# Altium schematic symbol library Mainboard.SCHLIB: 26 symbols
Pins are listed as number, name and electrical type; pins without a type are passive.

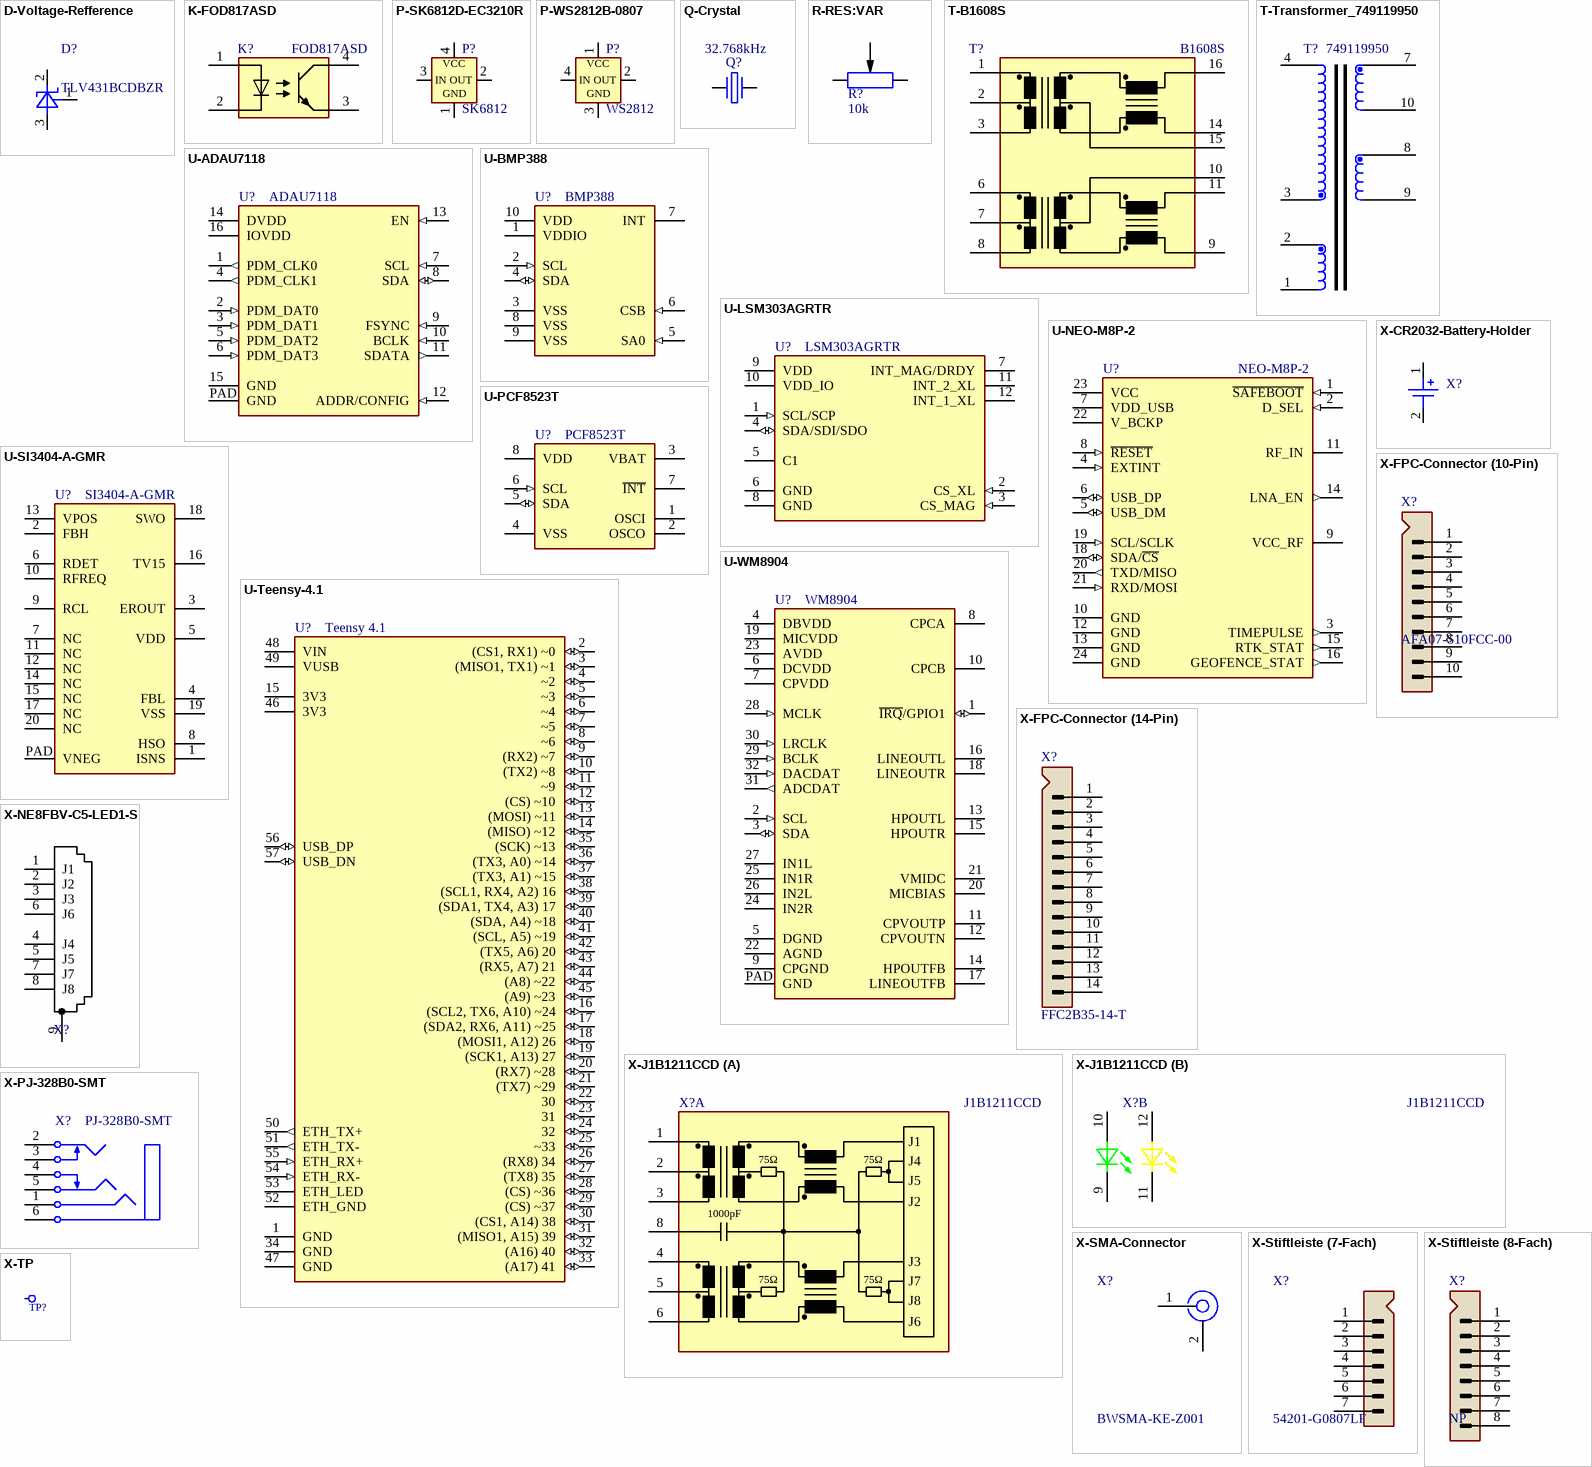
[diagram p0: symbols D-Voltage-Refference to X-TP]

## D-Voltage-Refference
designator D?, comment TLV431BCDBZR
Low-Voltage Adjustable Precision Shunt Regulator; Mouser: 595-TLV431BCDBZR; Digikey: 296-17569-1-ND; JLC-Parts: C2156583; ComponentLink1Description: Datasheet; ComponentLink1URL: https://www.ti.com/general/docs/suppproductinfo.tsp?distId=10&gotoUrl=https%3A%2F%2Fwww.ti.com%2Flit%2Fgpn%2Ftlv431a; Component Description: Low-Voltage Adjustable Precision Shunt Regulator; Component Value: TLV431BCDBZR; Unit Price: 0.59
pins: 1 REF, 2 C, 3 A

## K-FOD817ASD
designator K?, comment FOD817ASD
Phototransistor Optocoupler; Digikey: FOD817ASDDKR-ND; Farnell: 2322515; Mouser: 512-FOD817ASD; Component Description: Phototransistor Optocoupler; ComponentLink1Description: Datasheet; ComponentLink1URL: https://rocelec.widen.net/view/pdf/yhg4flovvn/ONSM-S-A0003163276-1.pdf?t.download=true&u=5oefqw; Component Value: FOD817ASD; JLC-Parts: C241830; Unit Price: 0.25
footprint SMD IC MDIP-6 (SOIC, 20-Leads, Body 12.8x7.5mm, Pitch 1.27mm, IPC Low Density)
pins: 1 LA, 2 LC, 3 TE, 4 TC

## P-SK6812D-EC3210R
designator P?, comment SK6812
Smart RGB-LED; aliExpress: 1005003125851992; Component Value: SK6812D-EC3210R; Digikey: 1528-4893-ND; Mouser: 485-4893; JLC-Parts: C2890041; ComponentLink1Description: Datasheet; ComponentLink1URL: https://datasheet.lcsc.com/lcsc/2108251530_OPSCO-Optoelectronics-SK6812D-EC3210R_C2890041.pdf; Component Description: Smart RGB-LED; Unit Price: 0.12
footprint SMD LED SK6812D-EC3210R (SMD_LED_RED)
pins: 1 GND (power), 2 OUT, 3 IN, 4 VCC (power)

## P-WS2812B-0807
designator P?, comment WS2812
Smart RGB-LED; aliExpress: 1005003999865721; Component Value: XL-0807RGBC-WS2812B; JLC-Parts: C3646929; ComponentLink1Description: Datasheet; ComponentLink1URL: https://datasheet.lcsc.com/lcsc/2108251530_OPSCO-Optoelectronics-SK6812D-EC3210R_C2890041.pdf; Component Description: Smart RGB-LED; Unit Price: 0.07
footprint SMD LED WS2812B-0807 (SMD_LED_RED)
pins: 1 VCC (power), 2 OUT, 3 GND (power), 4 IN

## Q-Crystal
designator Q?, comment 32.768kHz
Component Description: Crystal; Digikey: SER4103CT-ND; Mouser: 732-532.7680KA-A5; ComponentLink1Description: Datasheet; ComponentLink1URL: https://datasheet.lcsc.com/lcsc/1810171817_Seiko-Epson-Q13FC1350000400_C32346.pdf; Component Value: 32.768kHz; JLC-Parts: C32346; Unit Price: 0.18
pins: 1, 2
2 alternate drawings of the same symbol

## R-RES:VAR
designator R?, comment 10k
RES-VAR; Component Description: Potentiometer; Component Value: RK10J11R0A0H (Dual 10k); ComponentLink1Description: Datasheet; ComponentLink1URL: https://docs.rs-online.com/6334/A700000006802142.pdf; JLC-Parts: C470766; Mouser: 688-RK10J11R0A0H; Unit Price: 0.60
footprint THT Potentiometer (RK09D1130C2P) (Capacitor, Electrolytic, Radial; Body 5 x 5 mm (Dia.xH typ); Pin Spacing 2 mm (typ))
pins: CCW, CW, M
2 alternate drawings of the same symbol

## T-B1608S
designator T?, comment B1608S
LAN 10/100 Base-T Pulse Transformer with PoE; ComponentLink1Description: Datasheet; ComponentLink1URL: https://mm.digikey.com/Volume0/opasdata/d220001/medias/docus/696/SM13126PEL.pdf; Component Value: B1608S; Digikey: SM13126PELCT-ND; Farnell: 3225384; JLC-Parts: C507596; Mouser: 652-SM13126PEL; Unit Price: 0.24; Component Description: LAN 10/100 Base-T Pulse Transformer with PoE
footprint SMD Transformer 500x375
pins: 1 TD+, 2 TCT, 3 TD-, 4 NC hidden, 5 NC hidden, 6 RD+, 7 RCT, 8 RD-, 9 RX-, 10 RXCT, 11 RX+, 12 NC hidden, 13 NC hidden, 14 TX-, 15 TXCT, 16 TX+

## T-Transformer_749119950
designator T?, comment 749119950
PoE Power Transformer; Component Value: 749119950 (5V); Component Description: PoE Power Transformer; ComponentLink1Description: Datasheet; ComponentLink1URL: https://www.we-online.com/components/products/datasheet/749119950.pdf; Digikey: 732-2432-1-ND; Mouser: 710-749119950; Unit Price: 5.42
footprint THT Transformer EE20/10/6
pins: 1, 2, 3, 4, 5 hidden, 6 hidden, 7, 8, 9, 10

## U-ADAU7118
designator U?, comment ADAU7118
8-Channel PDM to I²S/TDM Converter; Component Value: ADAU7118ACPZRL; ComponentLink1Description: Datasheet; ComponentLink1URL: https://www.analog.com/media/en/technical-documentation/data-sheets/ADAU7118.pdf; Digikey: 505-ADAU7118ACPZRLCT-ND; Farnell: 4033291; JLC-Parts: C654437; Mouser: 584-ADAU7118ACPZRL; Unit Price: 6.20; Component Description: 8-Channel PDM to I²S/TDM Converter
footprint SMD IC TO-263-5
pins: 1 PDM_CLK0 (out), 2 PDM_DAT0 (in), 3 PDM_DAT1 (in), 4 PDM_CLK1 (out), 5 PDM_DAT2 (in), 6 PDM_DAT3 (in), 7 SCL (in), 8 SDA (io), 9 NC hidden, 9 FSYNC (in), 10 NC hidden, 10 BCLK (in), 11 NC hidden, 11 SDATA (out), 12 ADDR/CONFIG (in), 13 EN (in), 14 DVDD (power), 15 GND (power), 16 IOVDD (power), PAD GND (power)

## U-BMP388
designator U?, comment BMP388
Digital Pressure Sensor; ComponentLink1Description: Datasheet; ComponentLink1URL: https://www.bosch-sensortec.com/media/boschsensortec/downloads/datasheets/bst-bmp388-ds001.pdf; Digikey: 828-1079-1-ND; Component Value: BMP388; JLC-Parts: C779278; Mouser: 262-BMP388; Unit Price: 2.40; Component Description: Digital Pressure Sensor
footprint SMD IC TO-263-5
pins: 1 VDDIO (power), 2 SCL (in), 3 VSS (power), 4 SDA (io), 5 SA0 (in), 6 CSB (in), 7 INT (oc), 8 VSS (power), 9 VSS (power), 10 VDD (power)

## U-LSM303AGRTR
designator U?, comment LSM303AGRTR
High-Performance eCompass Module; ComponentLink1Description: Datasheet; ComponentLink1URL: https://www.st.com/content/ccc/resource/technical/document/datasheet/74/c4/19/54/62/c5/46/13/DM00177685.pdf/files/DM00177685.pdf/jcr:content/translations/en.DM00177685.pdf; Digikey: 497-16527-1-ND; Component Value: LSM303AGRTR; Farnell: 2664523; JLC-Parts: C126671; Mouser: 511-LSM303AGRTR; Unit Price: 1.42; Component Description: High-Performance eCompass Module
footprint SMD IC TO-263-5
pins: 1 SCL/SCP (in), 2 CS_XL (in), 3 CS_MAG (in), 4 SDA/SDI/SDO (io), 5 C1, 6 GND (power), 7 INT_MAG/DRDY (oc), 8 GND (power), 9 VDD (power), 10 VDD_IO (power), 11 INT_2_XL (oc), 12 INT_1_XL (oc)

## U-NEO-M8P-2
designator U?, comment NEO-M8P-2
High Precision GNSS Module (GPS-RTK); ComponentLink1Description: Datasheet; ComponentLink1URL: https://content.u-blox.com/sites/default/files/NEO-M8P_DataSheet_UBX-15016656.pdf; Digikey: 672-NEO-M8P-2CT-ND; Component Value: NEO-M8P-2; Mouser: 377-NEO-M8P-2; Unit Price: 134.10; Component Description: High Precision GNSS Module (GPS-RTK)
footprint SMD NEO-M8P-2 (QFN, 48-Leads, Body 7x7mm, Pitch 0.5mm, IPC Medium Density)
pins: 1 ~{SAFEBOOT} (in), 2 D_SEL (in), 3 TIMEPULSE (out), 4 EXTINT (in), 5 USB_DM (io), 6 USB_DP (io), 7 VDD_USB (power), 8 ~{RESET} (in), 9 VCC_RF (power), 10 GND (power), 11 RF_IN, 12 GND (power), 13 GND (power), 14 LNA_EN (out), 15 RTK_STAT (out), 16 GEOFENCE_STAT (out), 17 RESERVED hidden, 18 SDA/~{CS} (io), 19 SCL/SCLK (in), 20 TXD/MISO (out), 21 RXD/MOSI (in), 22 V_BCKP (power), 23 VCC (power), 24 GND (power)

## U-PCF8523T
designator U?, comment PCF8523T
Real-Time Clock (RTC) and Calendar; Component Value: PCF8523T/1,118; ComponentLink1Description: Datasheet; ComponentLink1URL: https://www.nxp.com/docs/en/data-sheet/PCF8523.pdf; Digikey: 568-5306-1-ND; Farnell: 2400452; JLC-Parts: C2651516; Mouser: 771-PCF8523T/1118; Unit Price: 1.35; Component Description: Real-Time Clock (RTC) and Calendar
footprint SMD IC TO-263-5
pins: 1 OSCI, 2 OSCO, 3 VBAT (power), 4 VSS (power), 5 SDA (io), 6 SCL (in), 7 ~{INT} (oc), 8 VDD (power), 9 NC hidden, 10 NC hidden, 11 NC hidden

## U-SI3404-A-GMR
designator U?, comment SI3404-A-GMR
IEEE 802.3 Type 1-Compliant POE PD Interface; Component Description: Low-Power Audio Codec with Headphones Driver; ComponentLink1Description: Datasheet; ComponentLink1URL: https://www.skyworksinc.com/-/media/Skyworks/SL/documents/public/data-sheets/si3404-datasheet.pdf; Digikey: 863-SI3404-A-GMRDKR-ND; Component Value: SI3404-A-GMR; Farnell: 3387044; JLC-Parts: C461934; Mouser: 634-SI3404-A-GMR; Unit Price: 1.37
footprint SMD IC TO-263-5
pins: 1 ISNS, 2 FBH, 3 EROUT, 4 FBL, 5 VDD (power), 6 RDET, 7 NC, 8 HSO, 9 RCL, 10 RFREQ, 11 NC, 12 NC, 13 VPOS (power), 14 NC, 15 NC, 16 TV15, 17 NC, 18 SWO, 19 VSS (power), 20 NC, PAD VNEG (power)

## U-Teensy-4.1
designator U?, comment Teensy 4.1
RT1062 i.MX ARM® Cortex®-M7 MPU; ComponentLink1Description: Datasheet; ComponentLink1URL: https://mm.digikey.com/Volume0/opasdata/d220001/medias/docus/497/DEV-16771_Web.pdf; Digikey: 1568-DEV-16771-ND; Component Value: Teensy 4.1; Mouser: 474-DEV-16771; Unit Price: 28.70; Component Description: RT1062 i.MX ARM® Cortex®-M7 MPU
footprint SMD IC TO-263-5
pins: 1 GND (power), 2 (CS1, RX1) ~0 (io), 3 (MISO1, TX1) ~1 (io), 4 ~2 (io), 5 ~3 (io), 6 ~4 (io), 7 ~5 (io), 8 ~6 (io), 9 NC hidden, 9 (RX2) ~7 (io), 10 NC hidden, 10 (TX2) ~8 (io), 11 NC hidden, 11 ~9 (io), 12 (CS) ~10 (io), 13 (MOSI) ~11 (io), 14 (MISO) ~12 (io), 15 3V3 (power), 16 (SCL2, TX6, A10) ~24 (io), 17 (SDA2, RX6, A11) ~25 (io), 18 (MOSI1, A12) 26 (io), 19 (SCK1, A13) 27 (io), 20 (RX7) ~28 (io), 21 (TX7) ~29 (io), 22 30 (io), 23 31 (io), 24 32 (io), 25 ~33 (io), 26 (RX8) 34 (io), 27 (TX8) 35 (io), 28 (CS) ~36 (io), 29 (CS) ~37 (io), 30 (CS1, A14) 38 (io), 31 (MISO1, A15) 39 (io), 32 (A16) 40 (io), 33 (A17) 41 (io), 34 GND (power), 35 (SCK) ~13 (io), 36 (TX3, A0) ~14 (io), 37 (TX3, A1) ~15 (io), 38 (SCL1, RX4, A2) 16 (io), 39 (SDA1, TX4, A3) 17 (io), 40 (SDA, A4) ~18 (io), 41 (SCL, A5) ~19 (io), 42 (TX5, A6) 20 (io), 43 (RX5, A7) 21 (io), 44 (A8) ~22 (io), 45 (A9) ~23 (io), 46 3V3 (power), 47 GND (power), 48 VIN (power), 49 VUSB (power), 50 ETH_TX+ (out), 51 ETH_TX- (out), 52 ETH_GND (power), 53 ETH_LED, 54 ETH_RX- (in), 55 ETH_RX+ (in), 56 USB_DP (io), 57 USB_DN (io)
1 alternate drawing of the same symbol

## U-WM8904
designator U?, comment WM8904
Low-Power Audio Codec with Headphones Driver; Component Value: WM8904CGEFL; ComponentLink1Description: Datasheet; ComponentLink1URL: https://statics.cirrus.com/pubs/proDatasheet/WM8904_Rev4.0.pdf; Digikey: 598-2437-1-ND; JLC-Parts: C323845; Mouser: 238-WM8904CGEFL/RV; Unit Price: 1.37; Component Description: Low-Power Audio Codec with Headphones Driver
footprint SMD IC TO-263-5
pins: 1 ~{IRQ}/GPIO1 (io), 2 SCL (in), 3 SDA (io), 4 DBVDD (power), 5 DGND (power), 6 DCVDD (power), 7 CPVDD (power), 8 CPCA, 9 NC hidden, 9 CPGND (power), 10 NC hidden, 10 CPCB, 11 NC hidden, 11 CPVOUTP, 12 CPVOUTN, 13 HPOUTL, 14 HPOUTFB, 15 HPOUTR, 16 LINEOUTL, 17 LINEOUTFB, 18 LINEOUTR, 19 MICVDD (power), 20 MICBIAS, 21 VMIDC, 22 AGND (power), 23 AVDD (power), 24 IN2R, 25 IN1R, 26 IN2L, 27 IN1L, 28 MCLK (in), 29 BCLK (in), 30 LRCLK (in), 31 ADCDAT (out), 32 DACDAT (in), PAD GND (power)

## X-CR2032-Battery-Holder
designator X?, comment 1060TR  (value not drawn)
Battery Holder (CR2032); Component Value: 1060TR; Digikey: 36-1060CT-ND; Farnell: 2533470; Mouser: 534-1060TR; Unit Price: 0.25; ComponentLink1Description: Datasheet; ComponentLink1URL: https://datasheet.lcsc.com/lcsc/2012181808_MYOUNG-BS-06-B4AA002_C964756.pdf; JLC-Parts: C964756; Component Description: Battery Holder (CR2032)
footprint SMD Battery-Holder (1048P)
pins: 1 P, 2 N

## X-FPC-Connector (10-Pin)
designator X?, comment AFA07-S10FCC-00
FPC-Connector (10-Pin, Slide-Lock,  Bottom Contact); Digikey: 2073-FFC3B07-10-TCT-ND; Farnell: 3873345; Mouser: 640-FFC3B07-10-T; Component Description: FPC-Connector (10-Pin, Slide-Lock,  Bottom Contact); Component Value: AFA07-S10FCC-00; JLC-Parts: C52162; Unit Price: 0.09; ComponentLink2Description: Datasheet; ComponentLink2URL: https://datasheet.lcsc.com/lcsc/1811142212_JUSHUO-AFA07-S10FCC-00_C52162.pdf
footprint THT Pin-Header 1x6 (NP) (Capacitor, Electrolytic, Radial; Body 5 x 5 mm (Dia.xH typ); Pin Spacing 2 mm (typ))
pins: 1, 2, 3, 4, 5, 6, 7, 8, 9, 10
1 alternate drawing of the same symbol

## X-FPC-Connector (14-Pin)
designator X?, comment FFC2B35-14-T
FPC-Connector (14-Pin, Front Flip,  Bottom Contact); Digikey: 2073-FFC2B35-14-TDKR-ND; Farnell: 3933420; Mouser: 640-FFC2B35-14-T; Component Description: FPC-Connector (14-Pin, Front Flip,  Bottom Contact); Component Value: FFC2B35-14-T; JLC-Parts: C262663; Unit Price: 0.09; ComponentLink2Description: Datasheet; ComponentLink2URL: https://gct.co/files/drawings/ffc2b35.pdf
footprint SMD Display 1.54" (STP0154F-240240)
pins: 1, 2, 3, 4, 5, 6, 7, 8, 9, 10, 11, 12, 13, 14
1 alternate drawing of the same symbol

## X-J1B1211CCD
designator X?, comment J1B1211CCD
RJ45 Connector with Magnetics and LEDs; DigiKey: 1278-1052-ND; Mouser: 950-J1B1211CCD; Component Description: RJ45 Connector with Magnetics and LEDs; Component Value: J1B1211CCD; JLC-Parts: C910371; Unit Price: 1.85; ComponentLink2Description: Datasheet; ComponentLink2URL: https://datasheet.lcsc.com/lcsc/2011180207_WIZNET-J1B1211CCD_C910371.pdf
part A pins: 1 TD+, 2 TCT, 3 TD-, 4 RD+, 5 RCT, 6 RD-, 7 NC hidden, 8 VC1-
part B pins: 9 LEDYK, 10 LEDYA, 11 LEDGK, 12 LEDGA
part A text: J1; 75Ω; J4; J5; J2; 1000pF; J3; J7; J8; J6

## X-NE8FBV-C5-LED1-S
designator X?, comment NE8FBV-C5-LED1-S  (value not drawn)
RJ45 etherCON (Cat 5e); Component Value: NE8FBV-C5-LED1-S; Farnell: 2543779; Mouser: 568-NE8FBV-C5-LED1-S; Unit Price: 20.67; ComponentLink1Description: Datasheet; ComponentLink1URL: https://www.mouser.ch/datasheet/2/289/st-ne8fbv-c5-led1-s-1-1854026.pdf; Component Description: RJ45 etherCON (Cat 5e)
footprint THT Connector NE8FDH-C5E-TOP
pins: 1, 2, 3, 4, 5, 6, 7, 8, 9
text: J1; J2; J3; J6; J4; J5; J7; J8

## X-PJ-328B0-SMT
designator X?, comment PJ-328B0-SMT
3.5mm Headphone Jack 4-Pin; ComponentLink1Description: Datasheet; ComponentLink1URL: https://datasheet.lcsc.com/lcsc/2002271917_XKB-Connectivity-PJ-328B0-SMT_C437035.pdf; Digikey: CP-43514SJCT-ND; Component Value: PJ-328B0-SMT; JLC-Parts: C437035; Mouser: 490-SJ-43514-SMT-TR; Unit Price: 0.23; Component Description: 3.5mm Headphone Jack 4-Pin
footprint SMD 3.5mm Jack (PJ-328B0-SMT)
pins: 1, 2, 3, 4, 5, 6, 9 NC hidden, 10 NC hidden, 11 NC hidden

## X-SMA-Connector
designator X?, comment BWSMA-KE-Z001
SMA Connector; Digikey: SAM8971-ND; Farnell: 2856821; Mouser: 200-SMAJPHSTTH1; Component Description: SMA Connector; Component Value: BWSMA-KE-Z001; JLC-Parts: C496549; Unit Price: 0.30; ComponentLink2Description: Datasheet; ComponentLink2URL: https://datasheet.lcsc.com/lcsc/2212281109_BAT-WIRELESS-BWSMA-KE-Z001_C496549.pdf
footprint THT Pin-Header 1x6 (NP) (Capacitor, Electrolytic, Radial; Body 5 x 5 mm (Dia.xH typ); Pin Spacing 2 mm (typ))
pins: 1, 2
1 alternate drawing of the same symbol

## X-Stiftleiste (7-Fach)
designator X?, comment 54201-G0807LF
Component Description: Pin Header SMD; Digikey: 609-54201-G0807LF-ND; Mouser: 649-54201-G0807ALF; Component Value: 54201-G0807LF; Unit Price: 1.32; ComponentLink2Description: Datasheet; ComponentLink2URL: https://cdn.amphenol-cs.com/media/wysiwyg/files/documentation/datasheet/boardwiretoboard/bwb_bergstik.pdf
footprint THT Pin-Header 1x6 (NP) (Capacitor, Electrolytic, Radial; Body 5 x 5 mm (Dia.xH typ); Pin Spacing 2 mm (typ))
pins: 1, 2, 3, 4, 5, 6, 7
1 alternate drawing of the same symbol

## X-Stiftleiste (8-Fach)
designator X?, comment NP
Component Description: Pin Header
footprint THT Pin-Header 1x6 (NP) (Capacitor, Electrolytic, Radial; Body 5 x 5 mm (Dia.xH typ); Pin Spacing 2 mm (typ))
pins: 1, 2, 3, 4, 5, 6, 7, 8
1 alternate drawing of the same symbol

## X-TP
designator TP?  (value not drawn)  (no BOM)
Testpunkt; Component Description: Testpoint; Component Value: Ø 0.8mm; Unit Price: 0.00
footprint THT Testpunkt Ø1mm
pins: 1